# Altium schematic symbol library SparkFun-Retired.SCHLIB: 389 symbols (part 4 of 4)
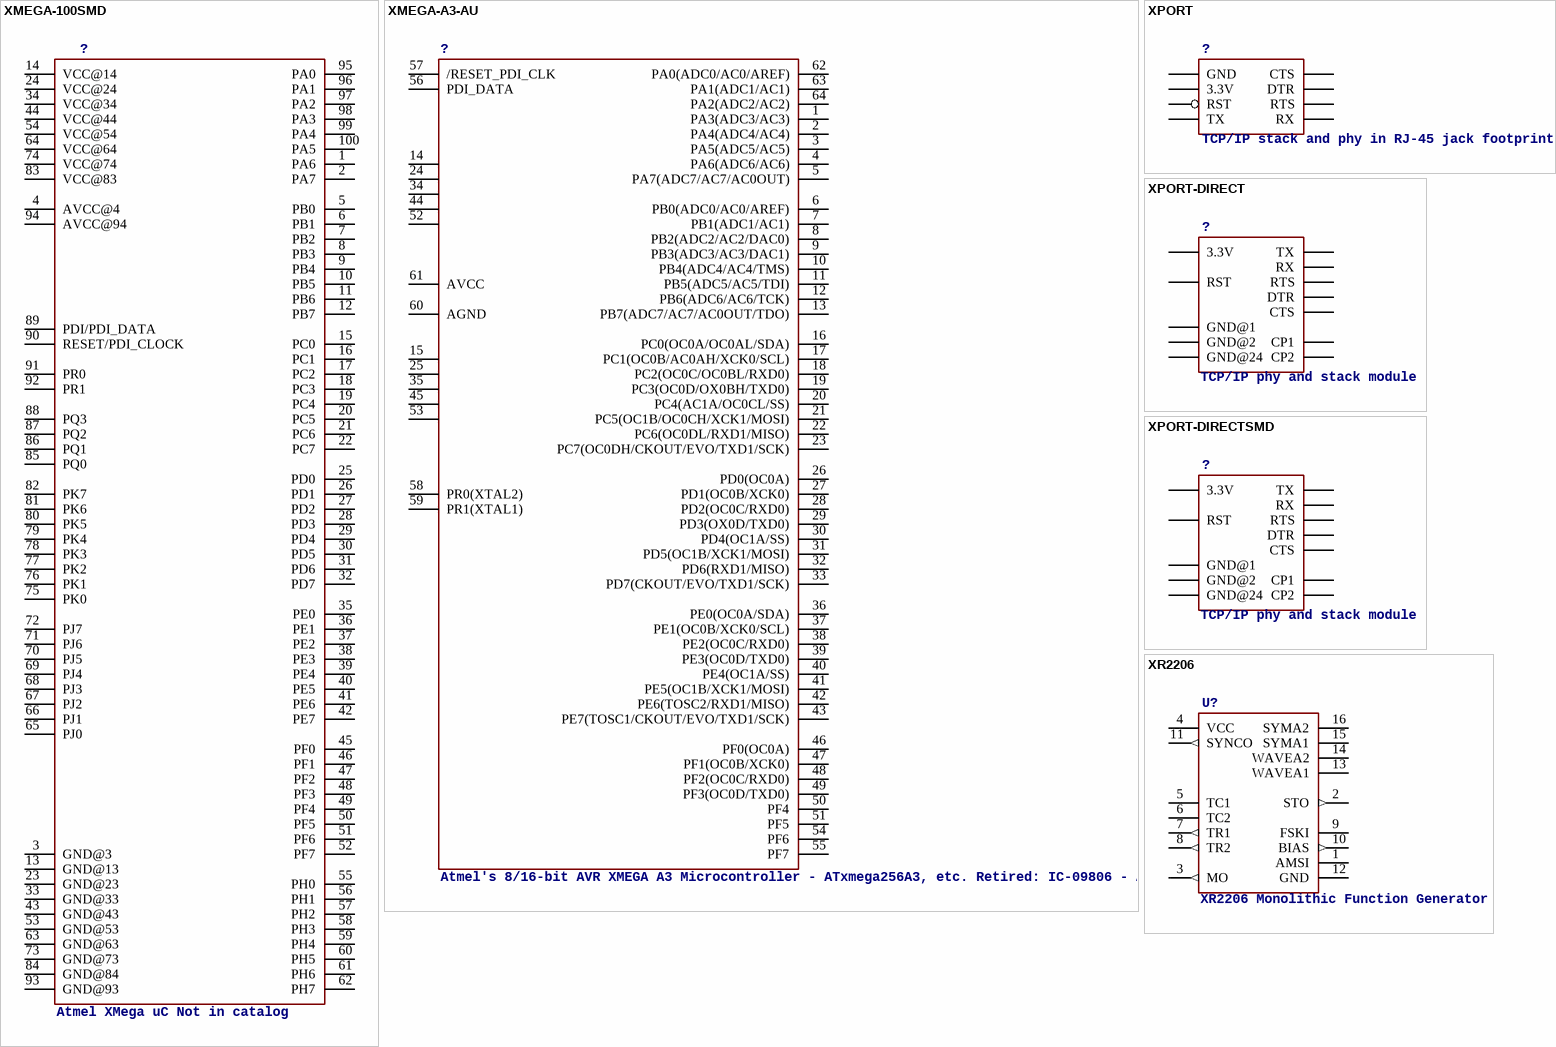
[diagram p32: symbols XMEGA-100SMD to XR2206]

## XPORT
designator ?, comment TCP/IP stack and phy in RJ-45 jack footprint
footprint XPORT
pins: P1 GND, P2 3.3V, P3 RST, P4 TX, P5 RX, P6 RTS, P7 DTR, P8 CTS

## XPORT-DIRECT
designator ?, comment TCP/IP phy and stack module
footprint XPORT_DIRECT_MODULE
pins: P1 GND@1, P2 GND@2, P3 3.3V, P5 RST, P7 TX, P9 RX, P11 RTS, P13 DTR, P15 CTS, P21 CP2, P23 CP1, P24 GND@24

## XPORT-DIRECTSMD
designator ?, comment TCP/IP phy and stack module
footprint XPORT_DIRECT_MODULE-SMD
pins: P1 GND@1, P2 GND@2, P3 3.3V, P5 RST, P7 TX, P9 RX, P11 RTS, P13 DTR, P15 CTS, P21 CP2, P23 CP1, P24 GND@24

## XR2206
designator U?, comment XR2206 Monolithic Function Generator
footprint DIL16
pins: 1 AMSI, 2 STO (out), 3 MO (out), 4 VCC (power), 5 TC1, 6 TC2, 7 TR1 (out), 8 TR2 (out), 9 FSKI, 10 BIAS (out), 11 SYNCO (out), 12 GND (power), 13 WAVEA1, 14 WAVEA2, 15 SYMA1, 16 SYMA2

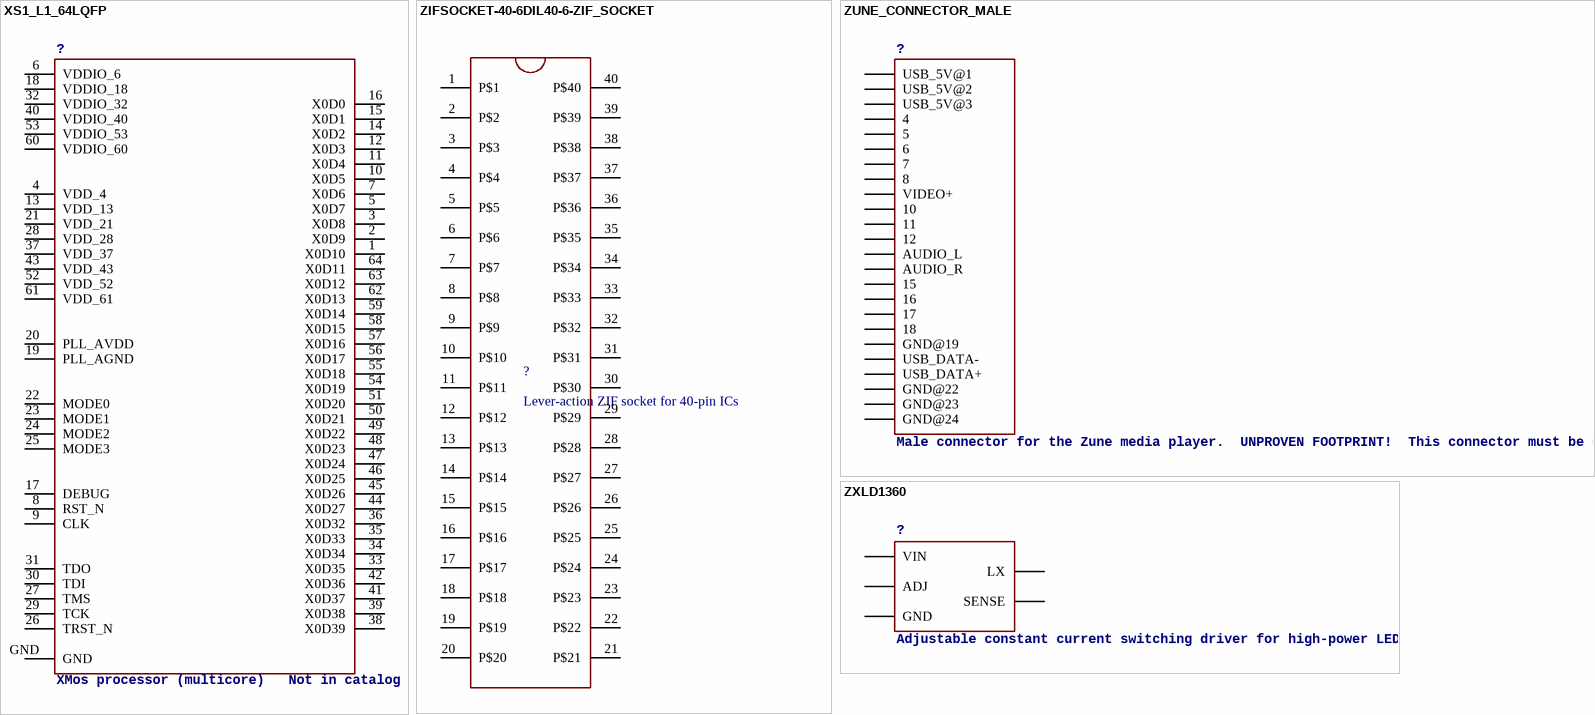
[diagram p29: symbols XS1_L1_64LQFP to ZXLD1360]

## XS1_L1_64LQFP
designator ?, comment XMos processor (multicore)   Not in catalog
footprint SQFP-S-10X10-64-XS1
pins: 1 X0D10, 2 X0D9, 3 X0D8, 4 VDD_4, 5 X0D7, 6 VDDIO_6, 7 X0D6, 8 RST_N, 9 CLK, 10 X0D5, 11 X0D4, 12 X0D3, 13 VDD_13, 14 X0D2, 15 X0D1, 16 X0D0, 17 DEBUG, 18 VDDIO_18, 19 PLL_AGND, 20 PLL_AVDD, 21 VDD_21, 22 MODE0, 23 MODE1, 24 MODE2, 25 MODE3, 26 TRST_N, 27 TMS, 28 VDD_28, 29 TCK, 30 TDI, 31 TDO, 32 VDDIO_32, 33 X0D35, 34 X0D34, 35 X0D33, 36 X0D32, 37 VDD_37, 38 X0D39, 39 X0D38, 40 VDDIO_40, 41 X0D37, 42 X0D36, 43 VDD_43, 44 X0D27, 45 X0D26, 46 X0D25, 47 X0D24, 48 X0D23, 49 X0D22, 50 X0D21, 51 X0D20, 52 VDD_52, 53 VDDIO_53, 54 X0D19, 55 X0D18, 56 X0D17, 57 X0D16, 58 X0D15, 59 X0D14, 60 VDDIO_60, 61 VDD_61, 62 X0D13, 63 X0D12, 64 X0D11, GND

## ZIFSOCKET-40-6DIL40-6-ZIF_SOCKET
designator ?, comment Lever-action ZIF socket for 40-pin ICs
footprint DIL40-6-ZIF_SOCKET
pins: 1 P$1, 2 P$2, 3 P$3, 4 P$4, 5 P$5, 6 P$6, 7 P$7, 8 P$8, 9 P$9, 10 P$10, 11 P$11, 12 P$12, 13 P$13, 14 P$14, 15 P$15, 16 P$16, 17 P$17, 18 P$18, 19 P$19, 20 P$20, 21 P$21, 22 P$22, 23 P$23, 24 P$24, 25 P$25, 26 P$26, 27 P$27, 28 P$28, 29 P$29, 30 P$30, 31 P$31, 32 P$32, 33 P$33, 34 P$34, 35 P$35, 36 P$36, 37 P$37, 38 P$38, 39 P$39, 40 P$40

## ZUNE_CONNECTOR_MALE
designator ?, comment Male connector for the Zune media player.  UNPROVEN FOOTPRINT!  This connector must be used only with a 1.2mm PCB thickness.
footprint ZUNE_CONNECTOR_MALE
pins: P$1 USB_5V@1, P$2 USB_5V@2, P$3 USB_5V@3, P$4 4, P$5 5, P$6 6, P$7 7, P$8 8, P$9 VIDEO+, P$10 10, P$11 11, P$12 12, P$13 AUDIO_L, P$14 AUDIO_R, P$15 15, P$16 16, P$17 17, P$18 18, P$19 GND@19, P$20 USB_DATA-, P$21 USB_DATA+, P$22 GND@22, P$23 GND@23, P$24 GND@24

## ZXLD1360
designator ?, comment Adjustable constant current switching driver for high-power LEDs
footprint SOT23-5
pins: 1 LX, 2 GND, 3 ADJ, 4 SENSE, 5 VIN